# Altium footprint library Connectors.PcbLib: 56 footprints (part 2 of 4)
Each footprint in its own frame and in the unit in brackets; x right, y up, seen from the top. Pads: shape width x height; smd on the part's side, far side on the other; paste and mask are expansions set on the pad; w line width, h text height; cw(c..) or ccw(c..) is an arc to the next point about the centre after c.
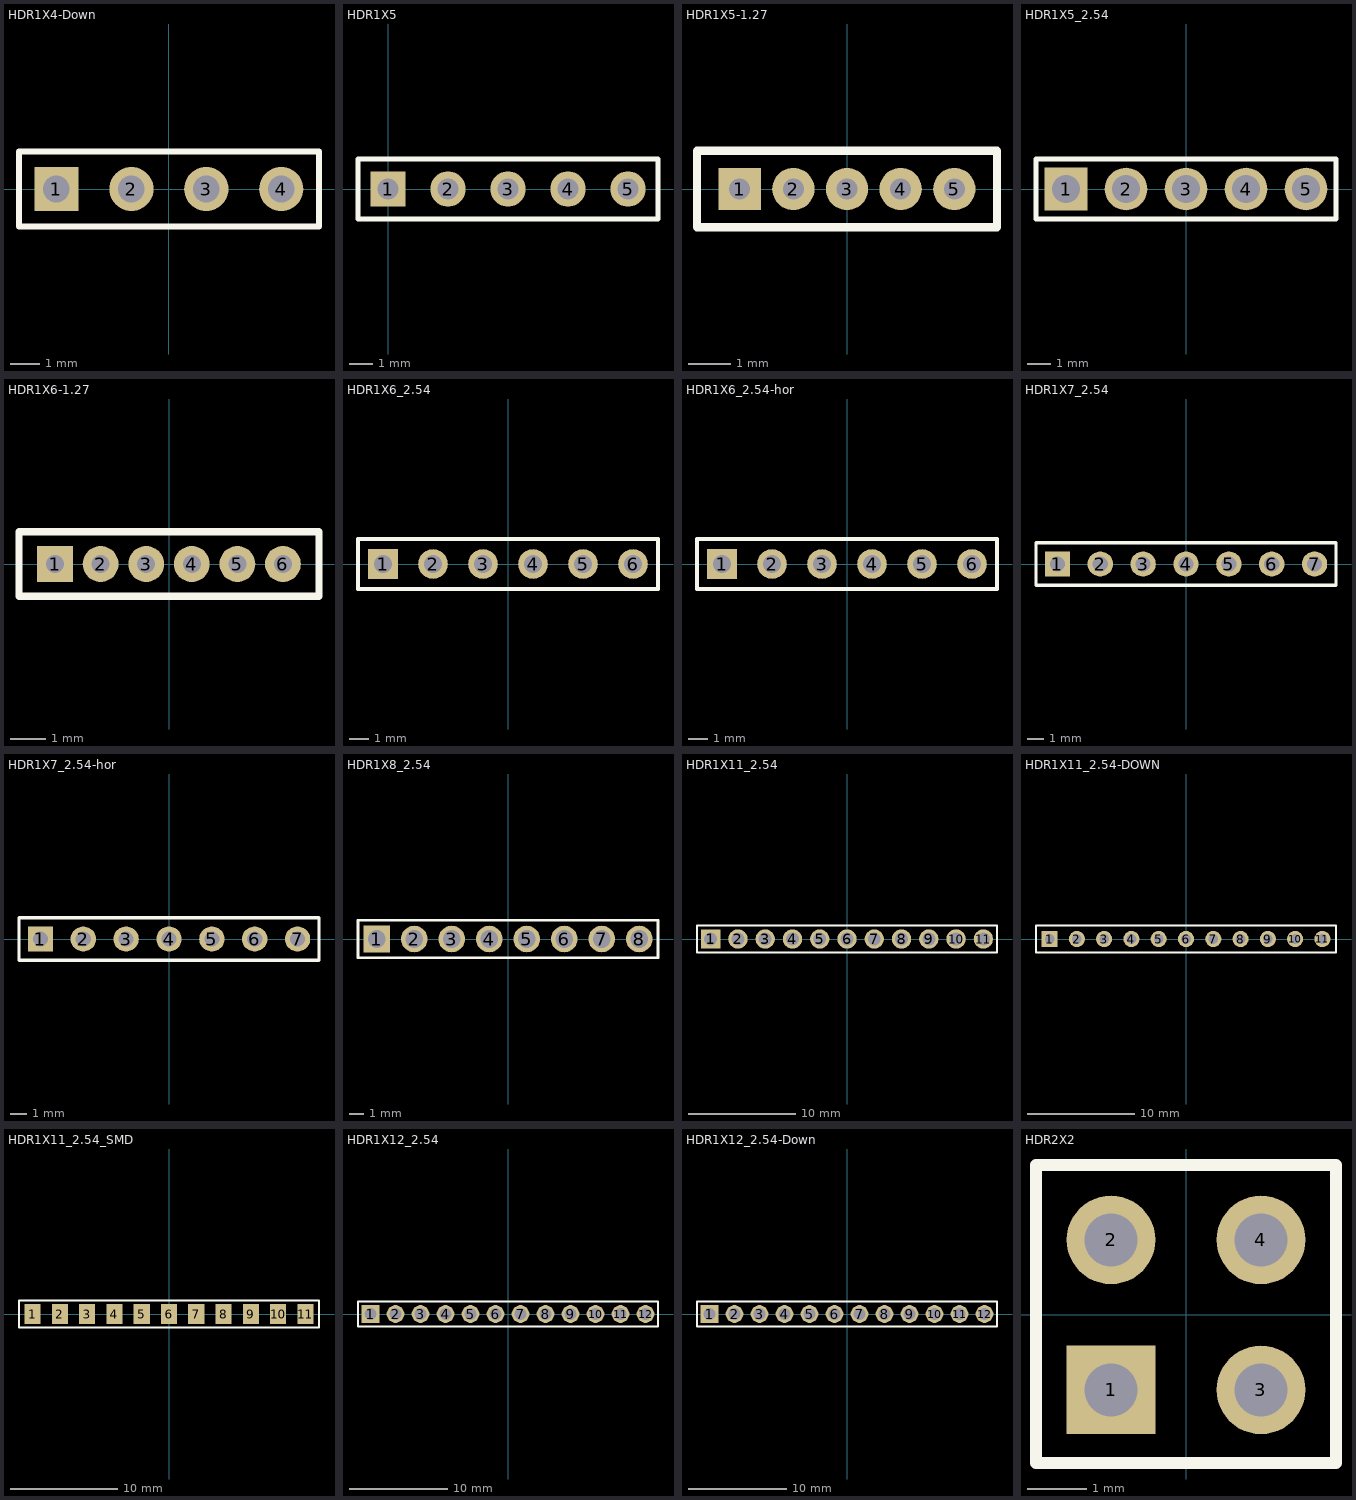
[diagram p1: the footprints below, top view; thin cyan lines are the x and y axes]

## HDR1X4-Down [mm] "Connector; Header; 4 Position"
pads (4):
  rect 1.5x1.5 hole 0.9: 1(-3.81,0)
  round 1.5 hole 0.9: 2(-1.27,0) 3(1.27,0) 4(3.81,0)
Top Overlay:
  lines w0.2: -5.08,-1.27 5.09,-1.27 5.09,1.27 -5.08,1.27 -5.08,-1.27
3D body "61300411021.stp": height 2.62, standoff -2.92, extent -5.06,-0.33 5.1,10.03

## HDR1X5 [mm] "Connector; Header; 5 Position"
pads (5):
  rect 1.5x1.5 hole 0.9: 1(0,0)
  round 1.5 hole 0.9: 2(2.54,0) 3(5.08,0) 4(7.62,0) 5(10.16,0)
Top Overlay:
  lines w0.2: -1.27,-1.27 11.43,-1.27 11.43,1.27 -1.27,1.27 -1.27,-1.27
3D body "61300511121.stp": height 8.57, standoff -2.97, extent -1.27,-1.27 11.43,1.27

## HDR1X5-1.27 [mm] "Connector; Header; 5 Position"
pads (5):
  rect 1x1 hole 0.5: 1(-2.54,0)
  round 1 hole 0.5: 2(-1.27,0) 3(0,0) 4(1.27,0) 5(2.54,0)
Top Overlay:
  lines w0.2: -3.55,-0.9 -3.55,0.9 3.55,0.9 3.55,-0.9 -3.55,-0.9
3D body: height 7, standoff 0, extent -3.556,-0.889 3.556,0.889

## HDR1X5_2.54 [mm] "Connector; Header; 5 Position"
height 2
pads (5):
  rect 1.8x1.8 hole 1.2: 1(-5.08,0)
  round 1.8 hole 1.2: 2(-2.54,0) 3(0,0) 4(2.54,0) 5(5.08,0)
Top Overlay:
  lines w0.2: -6.35,-1.27 6.35,-1.27 6.35,1.27 -4.445,1.27 -6.35,1.27 -6.35,-1.27
3D body "61300511121.stp": height 8.62, standoff -2.92, extent -6.34,-1.28 6.36,1.26

## HDR1X6-1.27 [mm] "Connector; Header; 6 Position"
pads (6):
  rect 1x1 hole 0.5: 1(-3.175,0)
  round 1 hole 0.5: 2(-1.905,0) 3(-0.635,0) 4(0.635,0) 5(1.905,0) 6(3.175,0)
Top Overlay:
  lines w0.2: -4.18,-0.9 4.18,-0.9 4.18,0.9 -4.18,0.9 -4.18,-0.9
3D body: height 7, standoff 0, extent -4.191,-0.889 4.18,0.889

## HDR1X6_2.54 [mm] "Connector; Header; 6 Position"
height 2
pads (6):
  rect 1.5x1.5 hole 0.9: 1(-6.35,0)
  round 1.5 hole 0.9: 2(-3.81,0) 3(-1.27,0) 4(1.27,0) 5(3.81,0) 6(6.35,0)
Top Overlay:
  lines w0.2: -7.62,-1.27 7.62,-1.27 7.62,1.27 -5.715,1.27 -7.62,1.27 -7.62,-1.27
3D body "61300611121.stp": height 8.62, standoff -2.92, extent -7.61,-1.27 7.63,1.27

## HDR1X6_2.54-hor [mm] "Connector; Header; 6 Position"
height 2
pads (6):
  rect 1.5x1.5 hole 0.9: 1(-6.35,0)
  round 1.5 hole 0.9: 2(-3.81,0) 3(-1.27,0) 4(1.27,0) 5(3.81,0) 6(6.35,0)
Top Overlay:
  lines w0.2: -7.62,-1.27 -7.62,1.27 -5.715,1.27 7.62,1.27 7.62,-1.27 -7.62,-1.27
3D body "61300611021.stp": height 2.57, standoff -2.97, extent -7.6,-0.3 7.64,10.06

## HDR1X7_2.54 [mm] "Connector; Header; 7 Position"
height 2
pads (7):
  rect 1.5x1.5 hole 0.9: 1(-7.62,0)
  round 1.5 hole 0.9: 2(-5.08,0) 3(-2.54,0) 4(0,0) 5(2.54,0) 6(5.08,0) 7(7.62,0)
Top Overlay:
  lines w0.2: -8.89,-1.27 -8.89,1.27 -6.985,1.27 8.89,1.27 8.89,-1.27 -8.89,-1.27
3D body "61300711121.stp": height 8.62, standoff -2.92, extent -8.9,-1.27 8.88,1.27

## HDR1X7_2.54-hor [mm] "Connector; Header; 7 Position"
height 2
pads (7):
  rect 1.5x1.5 hole 0.9: 1(-7.62,0)
  round 1.5 hole 0.9: 2(-5.08,0) 3(-2.54,0) 4(0,0) 5(2.54,0) 6(5.08,0) 7(7.62,0)
Top Overlay:
  lines w0.2: -8.89,-1.27 -8.89,1.27 -6.985,1.27 8.89,1.27 8.89,-1.27 -8.89,-1.27
3D body "61300711021-exp.STEP": height 2.57, standoff -2.97, extent -8.88,-0.32 8.9,10.04

## HDR1X8_2.54 [mm] "Connector; Header; 8 Position"
height 2
pads (8):
  rect 1.8x1.8 hole 1.2: 1(-8.89,0)
  round 1.8 hole 1.2: 2(-6.35,0) 3(-3.81,0) 4(-1.27,0) 5(1.27,0) 6(3.81,0) 7(6.35,0) 8(8.89,0)
Top Overlay:
  lines w0.2: -10.16,-1.27 -10.16,1.27 -8.255,1.27 10.16,1.27 10.16,-1.27 -10.16,-1.27
3D body "61300811121.stp": height 7.27, standoff -4.27, extent -10.18,-1.19 10.14,1.35

## HDR1X11_2.54 [mm] "Connector; Header; 11 Position"
height 2
pads (11):
  rect 1.8x1.8 hole 1.2: 1(-12.7,0)
  round 1.8 hole 1.2: 2(-10.16,0) 3(-7.62,0) 4(-5.08,0) 5(-2.54,0) 6(0,0) 7(2.54,0) 8(5.08,0) 9(7.62,0) 10(10.16,0) 11(12.7,0)
Top Overlay:
  lines w0.2: -13.97,-1.27 13.97,-1.27 13.97,1.27 -12.065,1.27 -13.97,1.27 -13.97,-1.27
3D body "61301011121.stp": height 8.62, standoff -2.92, extent -13.97,-1.27 11.43,1.27
3D body "61300111121.stp": height 8.62, standoff -2.92, extent 11.43,-1.27 13.97,1.27

## HDR1X11_2.54-DOWN [mm] "Connector; Header; 11 Position"
height 2
pads (11):
  rect 1.5x1.5 hole 0.9: 1(-12.7,0)
  round 1.5 hole 0.9: 2(-10.16,0) 3(-7.62,0) 4(-5.08,0) 5(-2.54,0) 6(0,0) 7(2.54,0) 8(5.08,0) 9(7.62,0) 10(10.16,0) 11(12.7,0)
Top Overlay:
  lines w0.2: -13.97,-1.27 13.97,-1.27 13.97,1.27 -12.065,1.27 -13.97,1.27 -13.97,-1.27
3D body "7-Pin-2_54mm.STEP": height 2.57, standoff -2.97, extent -13.97,-0.33 3.81,10.03
3D body "4-Pin-2_54mm.STEP": height 2.57, standoff -2.97, extent 3.8,-0.32 13.96,10.04

## HDR1X11_2.54_SMD [mm] "Connector; Header; 11 Position"
height 2
pads (11):
  rect 1.5x1.9 smd: 1(-12.7,0) 2(-10.16,0) 3(-7.62,0) 4(-5.08,0) 5(-2.54,0) 6(0,0) 7(2.54,0) 8(5.08,0) 9(7.62,0) 10(10.16,0) 11(12.7,0)
Top Overlay:
  lines w0.2: -13.97,-1.27 13.97,-1.27 13.97,1.27 -12.065,1.27 -13.97,1.27 -13.97,-1.27
3D body: height 7, standoff 0, extent -13.97,-1.27 13.97,5.08

## HDR1X12_2.54 [mm] "Connector; Header; 11 Position"
height 2
pads (12):
  rect 1.8x1.8 hole 1.2: 1(-13.97,0)
  round 1.8 hole 1.2: 2(-11.43,0) 3(-8.89,0) 4(-6.35,0) 5(-3.81,0) 6(-1.27,0) 7(1.27,0) 8(3.81,0) 9(6.35,0) 10(8.89,0) 11(11.43,0) 12(13.97,0)
Top Overlay:
  lines w0.2: -15.24,-1.27 -15.24,1.27 -13.335,1.27 15.24,1.27 15.24,-1.27 -15.24,-1.27
3D body "61301211121.stp": height 8.62, standoff -2.92, extent -15.21,-1.27 15.27,1.27

## HDR1X12_2.54-Down [mm] "Connector; Header; 11 Position"
height 2
pads (12):
  rect 1.8x1.8 hole 1.2: 1(-13.97,0)
  round 1.8 hole 1.2: 2(-11.43,0) 3(-8.89,0) 4(-6.35,0) 5(-3.81,0) 6(-1.27,0) 7(1.27,0) 8(3.81,0) 9(6.35,0) 10(8.89,0) 11(11.43,0) 12(13.97,0)
Top Overlay:
  lines w0.2: -15.24,-1.27 -15.24,1.27 -13.335,1.27 15.24,1.27 15.24,-1.27 -15.24,-1.27
3D body "61301211021.stp": height 2.62, standoff -2.92, extent -15.25,-0.38 15.23,9.98

## HDR2X2 [mm] "Connector; Header; 4 Position"
pads (4):
  rect 1.5x1.5 hole 0.9: 1(-1.27,-1.27)
  round 1.5 hole 0.9: 2(-1.27,1.27) 3(1.27,-1.27) 4(1.27,1.27)
Top Overlay:
  lines w0.2: -2.54,-2.51 -2.54,2.54 2.54,2.54 2.54,-2.51 -2.54,-2.51
3D body "61300421121.stp": height 8.57, standoff -2.97, extent -2.5,-2.46 2.58,2.62